# EAGLE library part OPA2376 (library op-amp)
OP-AMP Precision Low-Noise, Low Quiescent Current
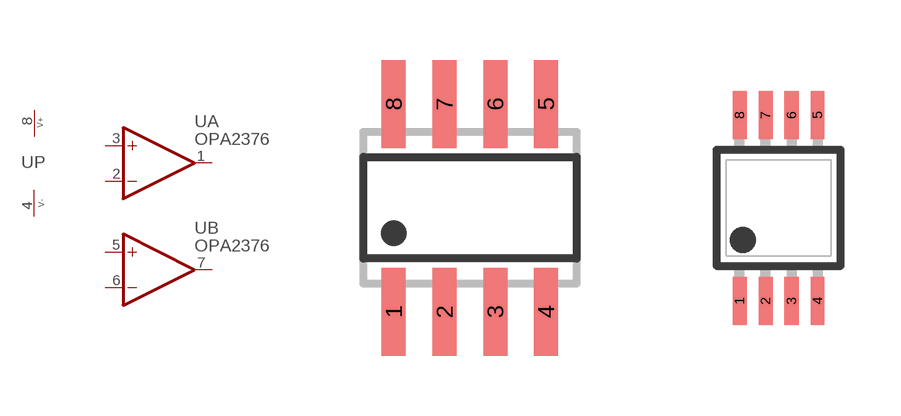
[diagram p81: symbol with the pads of SO08; footprints SO08, VSSOP8]

Designator prefix U; gates A=OPAMP_NV B=OPAMP_NV P=PWRI_V+-

## OPA2376D  [SO08]
1  A:OUT  out
2  A:-IN  in
3  A:+IN  in
4  P:V-  pas
5  B:+IN  in
6  B:-IN  in
7  B:OUT  out
8  P:V+  pas

## OPA2376DGK  [VSSOP8]
Pads as for SO08

## OPA2376YZD  [VFBGA-8]
A1  A:OUT  out
A2  P:V+  pas
B1  A:-IN  in
B2  B:OUT  out
C1  A:+IN  in
C2  B:-IN  in
D1  P:V-  pas
D2  B:+IN  in

## Footprint SO08 (pad centres in mm)
SMALL OUTLINE INTEGRATED CIRCUIT body 3.9 mm/JEDEC MS-012AA
smd 0.6 x 2.2: 1 -1.905,-2.6; 2 -0.635,-2.6; 3 0.635,-2.6; 4 1.905,-2.6; 5 1.905,2.6; 6 0.635,2.6; 7 -0.635,2.6; 8 -1.905,2.6

## Footprint VSSOP8 (pad centres in mm)
VSSOP 8 - DGK (S-PDSO-G8) body 3.1 mm
smd 0.35 x 1.2: 1 -0.975,-2.325; 2 -0.325,-2.325; 3 0.325,-2.325; 4 0.975,-2.325; 5 0.975,2.325; 6 0.325,2.325; 7 -0.325,2.325; 8 -0.975,2.325

## Footprint VFBGA-8 (pad centres in mm)
DIE-SIZE BALL GRID ARRAY - YZD (R-XBGA-N8) ball pitch 0.5mm, body 2.3 x 1.3mm
smd 0.3 x 0.3: A1 -0.75,-0.25; A2 -0.75,0.25; B1 -0.25,-0.25; B2 -0.25,0.25; C1 0.25,-0.25; C2 0.25,0.25; D1 0.75,-0.25; D2 0.75,0.25